# Altium footprint library Connector.PcbLib: 2 footprints
Each footprint in its own frame and in the unit in brackets; x right, y up, seen from the top. Pads: shape width x height; smd on the part's side, far side on the other; paste and mask are expansions set on the pad; w line width, h text height; cw(c..) or ccw(c..) is an arc to the next point about the centre after c.
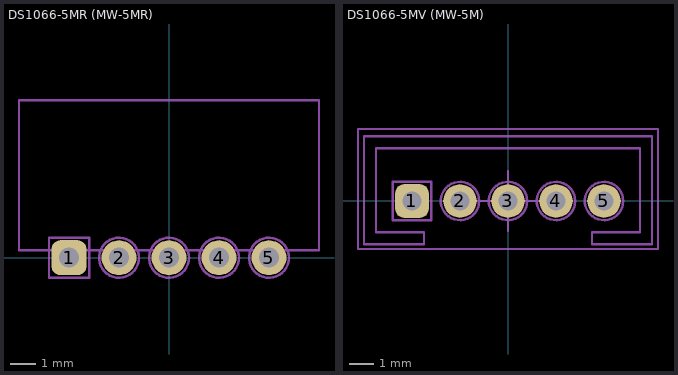
[diagram p0: the footprints below, top view; thin cyan lines are the x and y axes]

## DS1066-5MR (MW-5MR) [mm]
pads (5):
  rrect50% 1.4x1.4 hole 0.8: 1(-4,0)
  round 1.4 hole 0.8: 2(-2,0) 3(0,0) 4(2,0) 5(4,0)
Mechanical 13:
  lines w0.1: -6,0.3 6,0.3 6,6.3 -6,6.3 -6,0.3
Mechanical 14:
  circle w0.1: c-2,0 r0.8
  circle w0.1: c0,0 r0.8
  circle w0.1: c2,0 r0.8
  circle w0.1: c4,0 r0.8
  lines w0.1: -4.8,-0.8 -4.8,0.8 -3.2,0.8 -3.2,-0.8 -4.8,-0.8
3D body: height 3, standoff -1.5, extent -4.25,-0.2 -3.75,0.3
3D body: height 3, standoff -1.5, extent -2.25,-0.2 -1.75,0.3
3D body: height 3, standoff -1.5, extent -0.25,-0.2 0.25,0.3
3D body: height 3, standoff -1.5, extent 1.75,-0.2 2.25,0.3
3D body: height 3, standoff -1.5, extent 3.75,-0.2 4.25,0.3
3D body: height 3, standoff 2.5, extent -4.25,-0.2 -3.75,5.8
3D body: height 3, standoff 2.5, extent -2.25,-0.2 -1.75,5.8
3D body: height 3, standoff 2.5, extent -0.25,-0.2 0.25,5.8
3D body: height 3, standoff 2.5, extent 1.75,-0.2 2.25,5.8
3D body: height 3, standoff 2.5, extent 3.75,-0.2 4.25,5.8
3D body: height 3, standoff 0, extent -6,-1.2 -5,0.3
3D body: height 3, standoff 0, extent 5,-1.25 6,0.25
3D body: height 4.5, standoff 0, extent -6,2.3 6,8.8
3D body: height 4, standoff 0.5, extent -5.5,0.3 6,2.3
3D body: height 0.5, standoff 0, extent -6,0.3 6,6.3
3D body: height 4.5, standoff 4, extent -6,0.3 6,6.3
3D body: height 4, standoff 0.5, extent -6,0.3 -5.5,6.3
3D body: height 4, standoff 0.5, extent 5.5,0.3 6,6.3

## DS1066-5MV (MW-5M) [mm] "Connector, pitch 2mm, 5 pos"
height 6
pads (5):
  rrect50% 1.4x1.4 hole 0.8: 1(-4,0)
  round 1.4 hole 0.8: 2(-2,0) 3(0,0) 4(2,0) 5(4,0)
Mechanical 13:
  circle w0.1: c4,0 r0.8
  circle w0.1: c2,0 r0.8
  circle w0.1: c0,0 r0.8
  circle w0.1: c-2,0 r0.8
  lines w0.1: -6,-1.8 -6,2.7 6,2.7 6,-1.8 3.5,-1.8 3.5,-1.3 5.5,-1.3 5.5,2.2 -5.5,2.2 -5.5,-1.3 -3.5,-1.3 -3.5,-1.8 -6,-1.8 ; -4.8,-0.8 -3.2,-0.8 -3.2,0.8 -4.8,0.8 -4.8,-0.8
Mechanical 14:
  circle w0.1: c4,0 r0.8
  circle w0.1: c2,0 r0.8
  circle w0.1: c0,0 r0.8
  circle w0.1: c-2,0 r0.8
  lines w0.1: -4.8,-0.8 -4.8,0.8 -3.2,0.8 -3.2,-0.8 -4.8,-0.8
Mechanical 15:
  lines w0.1: -1.25,0 1.25,0 ; 0,-1.25 0,1.25 ; -6.25,-2 6.25,-2 6.25,3 -6.25,3 -6.25,-2
3D body: height 8.5, standoff 6, extent -6,-1.8 6,2.7
3D body: height 5, standoff -2, extent 3.75,-0.25 4.25,0.25
3D body: height 5, standoff -2, extent 1.75,-0.25 2.25,0.25
3D body: height 5, standoff -2, extent -0.25,-0.25 0.25,0.25
3D body: height 5, standoff -2, extent -2.25,-0.25 -1.75,0.25
3D body: height 5, standoff -2, extent -4.25,-0.25 -3.75,0.25
3D body: height 6, standoff 0, extent -6,-1.8 6,2.7
3D body: height 1, standoff 0, extent -6,-1.8 6,2.7